# Altium schematic symbol library STM32F401RET6.SchLib: 1 symbol
Pins are listed as number, name and electrical type; pins without a type are passive.

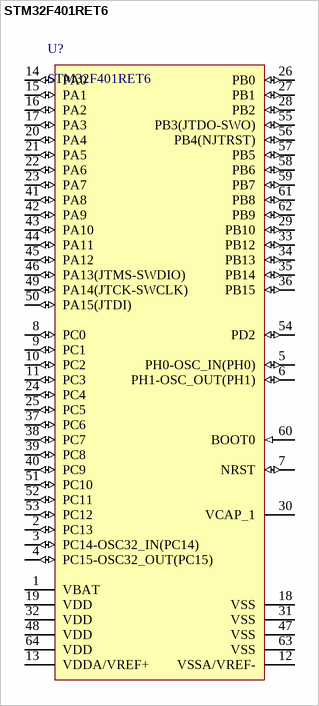
[diagram p0: symbol STM32F401RET6]

## STM32F401RET6
designator U?
ARM Cortex-M4 32-bit MCU+FPU, 512 KB Flash, 96 KB Internal RAM, 50 I/Os, 64-Pin LQFP, -40 to 85 degC, Tray; Supply Voltage(Vcc) min (V): 1.7; Internal RAM Size (kB): 96; I/Os (High Current): 50; Operating Frequency(F) (Processor speed) (MHz): 84; FLASH Size (Prog) (kB): 512; Package Reference: 64-Pin Low-profile Quad Flat Package, Body 10 x 10 mm, Pitch 0.5 mm; Packing: Tray; DatasheetVersion: Rev. 3; Mounting Technology: Surface Mount; ComponentLink1Description: Manufacturer URL; Package Description: LQFP64; Core: ARM Cortex-M4; ComponentLink1URL: http://www.st.com/; ComponentLink2URL: http://www.st.com/st-web-ui/static/active/en/resource/technical/document/datasheet/DM00102166.pdf; ComponentLink2Description: Datasheet
footprint STM-LQFP64_N (QFP, 64-Leads, Body 10x10mm, Pitch 0.5mm, IPC Medium Density)
footprint STM-LQFP64_M (QFP, 64-Leads, Body 10x10mm, Pitch 0.5mm, IPC Low Density)
footprint STM-LQFP64_L (QFP, 64-Leads, Body 10x10mm, Pitch 0.5mm, IPC High Density)
pins: 1 VBAT (power), 2 PC13 (io) "PC13/EVENTOUT/RTC_TAMP1,RTC_OUT,RTC_TS", 3 PC14-OSC32_IN(PC14) (io) "PC14/EVENTOUT/OSC32_IN", 4 PC15-OSC32_OUT(PC15) (io) "PC15/EVENTOUT/OSC32_OUT", 5 PH0-OSC_IN(PH0) (io) "PH0/EVENTOUT/OSC_IN", 6 PH1-OSC_OUT(PH1) (io) "PH1/EVENTOUT/OSC_OUT", 7 NRST (io) "NRST/EVENTOUT", 8 PC0 (io) "PC0/EVENTOUT/ADC1_IN10", 9 PC1 (io) "PC1/EVENTOUT/ADC1_IN11", 10 PC2 (io) "PC2/SPI2_MISO,I2S2EXT_SD,EVENTOUT/ADC1_IN12", 11 PC3 (io) "PC3/SPI2_MOSI/I2S2_SD,EVENTOUT/ADC1_IN13", 12 VSSA/VREF- (power), 13 VDDA/VREF+ (power), 14 PA0 (io) "PA0/USART2_CTS,TIM2_CH1/TIM2_ETR,TIM5_CH1,EVENTOUT/ADC1_IN0,WKUP", 15 PA1 (io) "PA1/USART2_RTS,TIM2_CH2,TIM5_CH2,EVENTOUT/ADC1_IN1", 16 PA2 (io) "PA2/USART2_TX,TIM2_CH3,TIM5_CH3,TIM9_CH1,EVENTOUT/ADC1_IN2", 17 PA3 (io) "PA3/USART2_RX,TIM2_CH4,TIM5_CH4,TIM9_CH2,EVENTOUT/ADC1_IN3", 18 VSS (power), 19 VDD (power), 20 PA4 (io) "PA4/SPI1_NSS,SPI3_NSS/I2S3_WS,USART2_CK,EVENTOUT/ADC1_IN4", 21 PA5 (io) "PA5/SPI1_SCK,TIM2_CH1/TIM2_ETR,EVENTOUT/ADC1_IN5", 22 PA6 (io) "PA6/SPI1_MISO,TIM1_BKIN,TIM3_CH1,EVENTOUT/ADC1_IN6", 23 PA7 (io) "PA7/SPI1_MOSI,TIM1_CH1N,TIM3_CH2,EVENTOUT/ADC1_IN7", 24 PC4 (io) "PC4/EVENTOUT/ADC1_IN14", 25 PC5 (io) "PC5/EVENTOUT/ADC1_IN15", 26 PB0 (io) "PB0/TIM1_CH2N,TIM3_CH3,EVENTOUT/ADC1_IN8", 27 PB1 (io) "PB1/TIM1_CH3N,TIM3_CH4,EVENTOUT/ADC1_IN9", 28 PB2 (io) "PB2/EVENTOUT/BOOT1", 29 PB10 (io) "PB10/SPI2_SCK/I2S2_CK,I2C2_SCL,TIM2_CH3,EVENTOUT", 30 VCAP_1, 31 VSS (power), 32 VDD (power), 33 PB12 (io) "PB12/SPI2_NSS/I2S2_WS,I2C2_SMBA,TIM1_BKIN,EVENTOUT", 34 PB13 (io) "PB13/SPI2_SCK/I2S2_CK,TIM1_CH1N,EVENTOUT", 35 PB14 (io) "PB14/SPI2_MISO,I2S2EXT_SD,TIM1_CH2N,EVENTOUT", 36 PB15 (io) "PB15/SPI2_MOSI/I2S2_SD,TIM1_CH3N,EVENTOUT/RTC_REFIN", 37 PC6 (io) "PC6/I2S2_MCK,USART6_TX,TIM3_CH1,SDIO_D6,EVENTOUT", 38 PC7 (io) "PC7/I2S3_MCK,USART6_RX,TIM3_CH2,SDIO_D7,EVENTOUT", 39 PC8 (io) "PC8/USART6_CK,TIM3_CH3,SDIO_D0,EVENTOUT", 40 PC9 (io) "PC9/I2S_CKIN,I2C3_SDA,TIM3_CH4,SDIO_D1,MCO_2,EVENTOUT", 41 PA8 (io) "PA8/I2C3_SCL,USART1_CK,TIM1_CH1,OTG_FS_SOF,MCO_1,EVENTOUT", 42 PA9 (io) "PA9/I2C3_SMBA,USART1_TX,TIM1_CH2,EVENTOUT/OTG_FS_VBUS", 43 PA10 (io) "PA10/USART1_RX,TIM1_CH3,OTG_FS_ID,EVENTOUT", 44 PA11 (io) "PA11/USART1_CTS,USART6_TX,TIM1_CH4,OTG_FS_DM,EVENTOUT", 45 PA12 (io) "PA12/USART1_RTS,USART6_RX,TIM1_ETR,OTG_FS_DP,EVENTOUT", 46 PA13(JTMS-SWDIO) (io) "PA13/JTMS-SWDIO,EVENTOUT", 47 VSS (power), 48 VDD (power), 49 PA14(JTCK-SWCLK) (io) "PA14/JTCK-SWCLK,EVENTOUT", 50 PA15(JTDI) (io) "PA15/JTDI,SPI1_NSS,SPI3_NSS/I2S3_WS,TIM2_CH1/TIM2_ETR,JTDI,EVENTOUT", 51 PC10 (io) "PC10/SPI3_SCK/I2S3_CK,SDIO_D2,EVENTOUT", 52 PC11 (io) "PC11/I2S3EXT_SD,SPI3_MISO,SDIO_D3,EVENTOUT", 53 PC12 (io) "PC12/SPI3_MOSI/I2S3_SD,SDIO_CK,EVENTOUT", 54 PD2 (io) "PD2/TIM3_ETR,SDIO_CMD,EVENTOUT", 55 PB3(JTDO-SWO) (io) "PB3/JTDO-SWO,SPI1_SCK,SPI3_SCK/I2S3_CK,I2C2_SDA,TIM2_CH2,EVENTOUT", 56 PB4(NJTRST) (io) "PB4/NJTRST,SPI1_MISO,SPI3_MISO,I2S3EXT_SD,I2C3_SDA,TIM3_CH1,EVENTOUT", 57 PB5 (io) "PB5/SPI1_MOSI,SPI3_MOSI/I2S3_SD,I2C1_SMBA,TIM3_CH2,EVENTOUT", 58 PB6 (io) "PB6/I2C1_SCL,USART1_TX,TIM4_CH1,EVENTOUT", 59 PB7 (io) "PB7/I2C1_SDA,USART1_RX,TIM4_CH2,EVENTOUT", 60 BOOT0 (in) "BOOT0/VPP", 61 PB8 (io) "PB8/I2C1_SCL,TIM4_CH3,TIM10_CH1,SDIO_D4,EVENTOUT", 62 PB9 (io) "PB9/SPI2_NSS/I2S2_WS,I2C1_SDA,TIM4_CH4,TIM11_CH1,SDIO_D5,EVENTOUT", 63 VSS (power), 64 VDD (power)